# EAGLE library part TESTCHIP3C (library harrison)
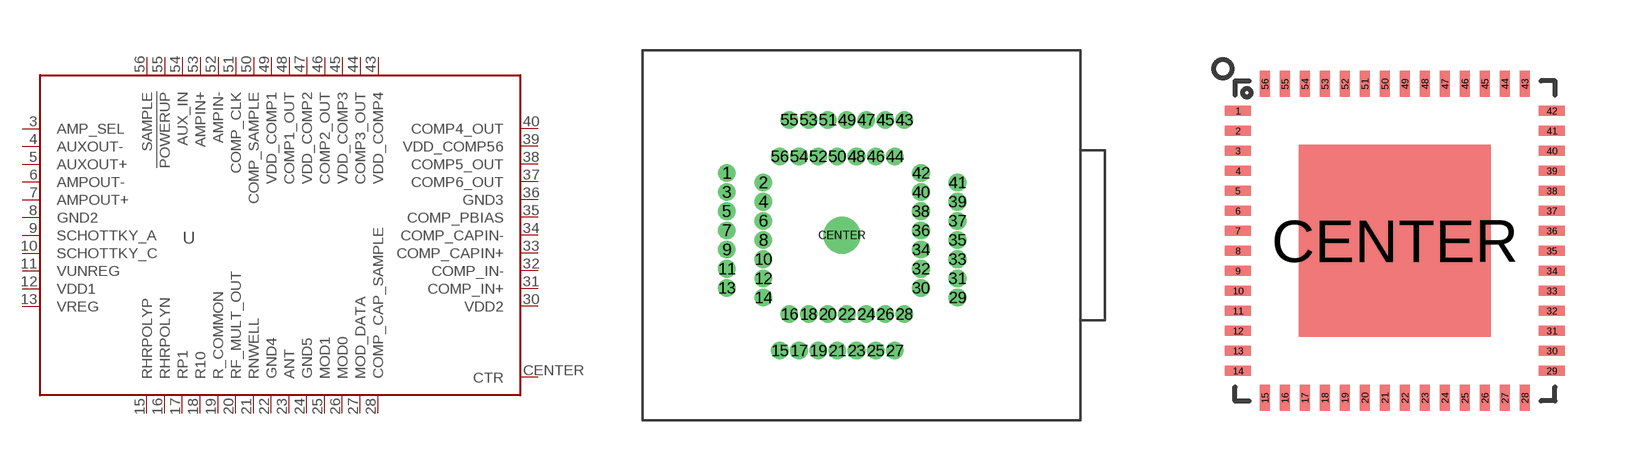
[diagram p60: symbol with the pads of ZIF_QFN56_8_X_8; footprints ZIF_QFN56_8_X_8, QFN56_8_X_8]

Designator prefix U

## TESTCHIP3C_ZIF  [ZIF_QFN56_8_X_8]
3  AMP_SEL  in
4  AUXOUT-  out
5  AUXOUT+  out
6  AMPOUT-  out
7  AMPOUT+  out
8  GND2  pwr
9  SCHOTTKY_A  pas
10  SCHOTTKY_C  pas
11  VUNREG  pwr
12  VDD1  pwr
13  VREG  pwr
15  RHRPOLYP  pas
16  RHRPOLYN  pas
17  RP1  pas
18  R10  pas
19  R_COMMON  pas
20  RF_MULT_OUT  pas
21  RNWELL  pas
22  GND4  pwr
23  ANT  pas
24  GND5  pwr
25  MOD1  in
26  MOD0  in
27  MOD_DATA  in
28  COMP_CAP_SAMPLE  in
30  VDD2  pwr
31  COMP_IN+  in
32  COMP_IN-  in
33  COMP_CAPIN+  in
34  COMP_CAPIN-  in
35  COMP_PBIAS  in
36  GND3  pwr
37  COMP6_OUT  out
38  COMP5_OUT  out
39  VDD_COMP56  pwr
40  COMP4_OUT  out
43  VDD_COMP4  pwr
44  COMP3_OUT  out
45  VDD_COMP3  pwr
46  COMP2_OUT  out
47  VDD_COMP2  pwr
48  COMP1_OUT  out
49  VDD_COMP1  pwr
50  COMP_SAMPLE  in
51  COMP_CLK  in
52  AMPIN-  in
53  AMPIN+  in
54  AUX_IN  in
55  !POWERUP!  in
56  SAMPLE  in
CENTER  CTR  pwr

## TESTCHIP3C_QFN  [QFN56_8_X_8]
Pads as for ZIF_QFN56_8_X_8

## Footprint ZIF_QFN56_8_X_8 (pad centres in mm)
drill 0.41 pad 0.813: 1 -6.02,3.251; 2 -4.115,2.751; 3 -6.02,2.25; 4 -4.115,1.75; 5 -6.02,1.25; 6 -4.115,0.752; 7 -6.02,0.249; 8 -4.115,-0.249; 9 -6.02,-0.749; 10 -4.115,-1.25; 11 -6.02,-1.75; 12 -4.115,-2.25; 13 -6.02,-2.751; 14 -4.115,-3.251; 15 -3.251,-6.02; 16 -2.751,-4.115; 17 -2.25,-6.02; 18 -1.75,-4.115; 19 -1.25,-6.02; 20 -0.752,-4.115; 21 -0.249,-6.02; 22 0.249,-4.115; 23 0.749,-6.02; 24 1.25,-4.115; 25 1.75,-6.02; 26 2.25,-4.115; 27 2.751,-6.02; 28 3.251,-4.115; 29 6.02,-3.251; 30 4.115,-2.751; 31 6.02,-2.25; 32 4.115,-1.75; 33 6.02,-1.25; 34 4.115,-0.752; 35 6.02,-0.249; 36 4.115,0.249; 37 6.02,0.749; 38 4.115,1.25; 39 6.02,1.75; 40 4.115,2.25; 41 6.02,2.751; 42 4.115,3.251; 43 3.251,6.02; 44 2.751,4.115; 45 2.25,6.02; 46 1.75,4.115; 47 1.25,6.02; 48 0.752,4.115; 49 0.249,6.02; 50 -0.249,4.115; 51 -0.749,6.02; 52 -1.25,4.115; 53 -1.75,6.02; 54 -2.25,4.115; 55 -2.751,6.02; 56 -3.251,4.115
drill 1.02 pad 1.93: CENTER 0,0

## Footprint QFN56_8_X_8 (pad centres in mm)
smd 0.65 x 0.25: 1 -3.925,3.25; 2 -3.925,2.75; 3 -3.925,2.25; 4 -3.925,1.75; 5 -3.925,1.25; 6 -3.925,0.75; 7 -3.925,0.25; 8 -3.925,-0.25; 9 -3.925,-0.75; 10 -3.925,-1.25; 11 -3.925,-1.75; 12 -3.925,-2.25; 13 -3.925,-2.75; 14 -3.925,-3.25; 29 3.925,-3.25; 30 3.925,-2.75; 31 3.925,-2.25; 32 3.925,-1.75; 33 3.925,-1.25; 34 3.925,-0.75; 35 3.925,-0.25; 36 3.925,0.25; 37 3.925,0.75; 38 3.925,1.25; 39 3.925,1.75; 40 3.925,2.25; 41 3.925,2.75; 42 3.925,3.25
smd 0.25 x 0.65: 15 -3.25,-3.925; 16 -2.75,-3.925; 17 -2.25,-3.925; 18 -1.75,-3.925; 19 -1.25,-3.925; 20 -0.75,-3.925; 21 -0.25,-3.925; 22 0.25,-3.925; 23 0.75,-3.925; 24 1.25,-3.925; 25 1.75,-3.925; 26 2.25,-3.925; 27 2.75,-3.925; 28 3.25,-3.925; 43 3.25,3.925; 44 2.75,3.925; 45 2.25,3.925; 46 1.75,3.925; 47 1.25,3.925; 48 0.75,3.925; 49 0.25,3.925; 50 -0.25,3.925; 51 -0.75,3.925; 52 -1.25,3.925; 53 -1.75,3.925; 54 -2.25,3.925; 55 -2.75,3.925; 56 -3.25,3.925
smd 4.8 x 4.8: CENTER 0,0